# EAGLE library part LM1881 (library LARS_409_MC)
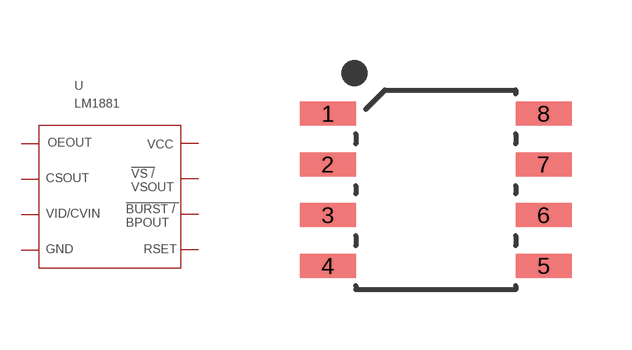
[diagram p48: symbol with the pads of SOIC-8; footprint SOIC-8]

Designator prefix U

## LM1881  [SOIC-8]
1  CSOUT
2  VID
3  !VS
4  GND
5  !BURST
6  RSET
7  OEOUT
8  VCC

## Footprint SOIC-8 (pad centres in mm)
8-SOIC, 1.27 mm pitch, 6.00 mm span, 4.90 X 4.90 X 1.50 mm body 8-pin SOIC package with 1.27 mm pitch, 6.00 mm span with body size 4.90 X 4.90 X 1.50 mm
smd 1.4 x 0.6: 1 -2.7,1.905; 2 -2.7,0.635; 3 -2.7,-0.635; 4 -2.7,-1.905; 5 2.7,-1.905; 6 2.7,-0.635; 7 2.7,0.635; 8 2.7,1.905